# Altium footprint library HAE_PcbLib1.PcbLib: 2 footprints
Each footprint in its own frame and in the unit in brackets; x right, y up, seen from the top. Pads: shape width x height; smd on the part's side, far side on the other; paste and mask are expansions set on the pad; w line width, h text height; cw(c..) or ccw(c..) is an arc to the next point about the centre after c.
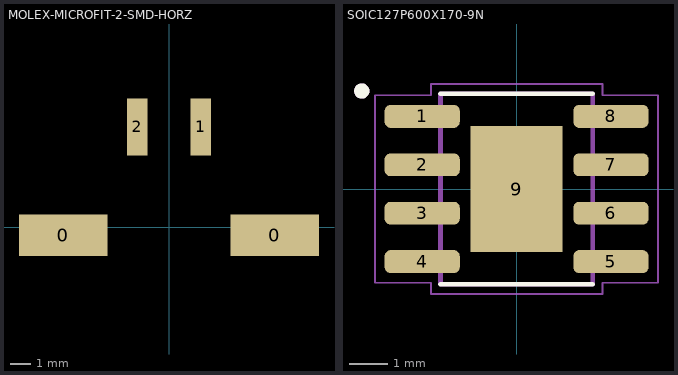
[diagram p0: the footprints below, top view; thin cyan lines are the x and y axes]

## MOLEX-MICROFIT-2-SMD-HORZ [mm] "Micro-Fit 3.0™ Right Angle Header, 3.00mm Pitch, Single Row, 2 Circuits, with Solder Tab, Tin, Glow Wire Capable, Black"
pads (4):
  rect 4.25x2 smd: 0(-5.08,-0.381) 0(5.08,-0.381)
  rect 1x2.75 smd: 1(1.524,4.826) 2(-1.524,4.826)
3D body "436500212.stp": height 5.64, standoff -0.04, extent -6.792,-4.989 6.858,5.751

## SOIC127P600X170-9N [mm]
pads (9):
  rrect50% 1.97x0.6 smd: 1(-2.475,1.905) 2(-2.475,0.635) 3(-2.475,-0.635) 4(-2.475,-1.905) 5(2.475,-1.905) 6(2.475,-0.635) 7(2.475,0.635) 8(2.475,1.905)
  rect 2.41x3.3 smd paste-3: 9(0,0)
Top Overlay:
  circle w0.2: c-4.06,2.57 r0.1
  lines w0.127: -2,-2.5 2,-2.5 ; -2,2.5 2,2.5
Top Paste:
  region: 0.935,0.135 0.135,0.135 0.135,1.375 0.935,1.375
  region: -0.135,-1.375 -0.935,-1.375 -0.935,-0.135 -0.135,-0.135
  region: -0.135,0.135 -0.935,0.135 -0.935,1.375 -0.135,1.375
  region: 0.935,-1.375 0.135,-1.375 0.135,-0.135 0.935,-0.135
Mechanical 13:
  circle w0.2: c-4.06,2.57 r0.1
  lines w0.127: -2,-2.5 -2,2.5 2,2.5 2,-2.5 -2,-2.5
Mechanical 15:
  lines w0.05: -3.71,-2.46 -2.25,-2.46 -2.25,-2.75 2.25,-2.75 2.25,-2.46 3.71,-2.46 3.71,2.46 2.25,2.46 2.25,2.75 -2.25,2.75 -2.25,2.46 -3.71,2.46 -3.71,-2.46
3D body "step_temp.STEP": height 1.7, standoff 0, extent -2.997,-2.438 2.997,2.464